# Altium footprint library C322C111JDG5TA.PcbLib: 1 footprints
Each footprint in its own frame and in the unit in brackets; x right, y up, seen from the top. Pads: shape width x height; smd on the part's side, far side on the other; paste and mask are expansions set on the pad; w line width, h text height; cw(c..) or ccw(c..) is an arc to the next point about the centre after c.
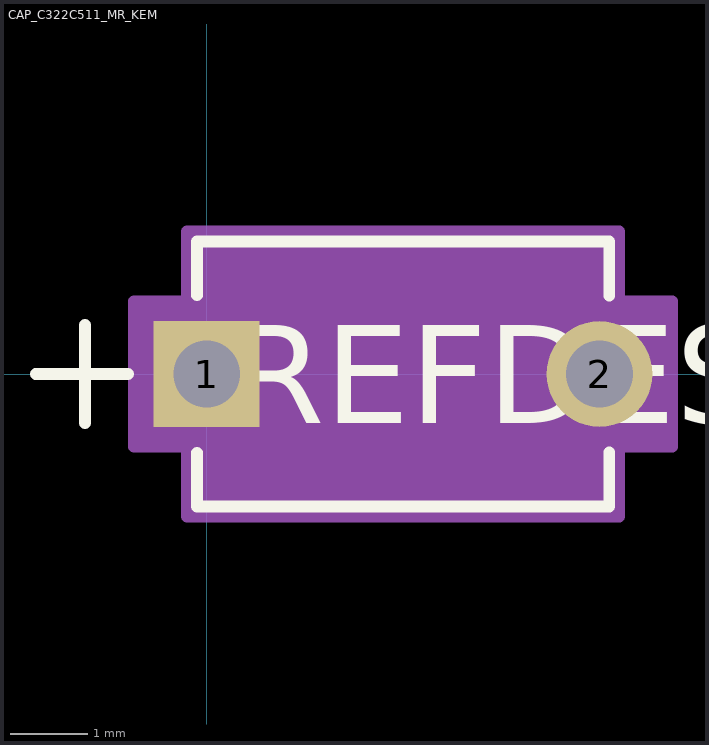
[diagram p0: the footprint, top view; thin cyan lines are the x and y axes]

## CAP_C322C511_MR_KEM [mil]
pads (2):
  rect 54x54 / inner round 60 / far side rect 54x54 hole 34 paste-27 mask+0: 1(0,0)
  round 54 / inner round 60 / far side round 54 hole 34 paste-27 mask+0: 2(200,0)
Top Overlay:
  lines w6: -87,0 -40.1,0 ; -62,-25 -62,25 ; -5,-40.1 -5,-67.5 205,-67.5 205,-39.79 ; -5,40.1 -5,67.5 205,67.5 205,39.79
  text "REFDES" at 12.5,-25 h50
Mechanical 13:
  lines w1: -87,0 -37,0 ; -62,-25 -62,25 ; 0,-62.5 200,-62.5 200,62.5 0,62.5 0,-62.5
  text "RefDes2" at 12.5,-25 h50
Mechanical 15:
  region: 0,-37 -37,-37 -37,37 0,37
  region: 200,-37 237,-37 237,37 200,37
  region: 200,-62.5 0,-62.5 0,62.5 200,62.5
  region: 210,-72.5 -10,-72.5 -10,72.5 210,72.5
  lines w6: -37,-37 -37,37 -10,37 -10,72.5 210,72.5 210,37 237,37 237,-37 210,-37 210,-72.5 -10,-72.5 -10,-37 -37,-37